# Altium footprint library EdgePlating.PcbLib: 4 footprints
Each footprint in its own frame and in the unit in brackets; x right, y up, seen from the top. Pads: shape width x height; smd on the part's side, far side on the other; paste and mask are expansions set on the pad; w line width, h text height; cw(c..) or ccw(c..) is an arc to the next point about the centre after c.
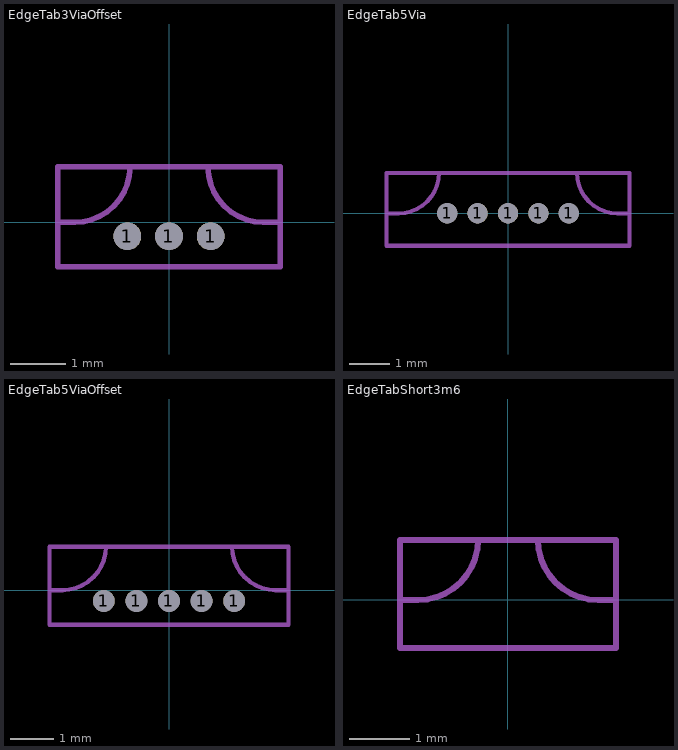
[diagram p0: the footprints below, top view; thin cyan lines are the x and y axes]

## EdgeTab3ViaOffset [mm] "TabLength = 4 mm"
pads (3):
  round 0.5 hole 0.5 unplated paste-2539.97 mask+0: 1(-0.75,-0.25) 1(0,-0.25) 1(0.75,-0.25)
Top Solder:
  region: -2,1 2,1 2,-0.8 -2,-0.8
Bottom Solder:
  region: -2,1 2,1 2,-0.8 -2,-0.8
Board:
  lines w0.1: -2,0 -1.7,0 ccw(c-1.7,1) -0.7,1 0.7,1 ccw(c1.7,1) 1.7,0 2,0
Multi-Layer:
  pour cut-out: -2,1 2,1 2,-0.8 -2,-0.8
EdgePlatingTabs:
  lines w0.1: -2,-0.8 2,-0.8 2,1 -2,1 -2,-0.8

## EdgeTab5Via [mm] "TabLength = 6 mm"
pads (5):
  round 0.5 hole 0.5 unplated paste-2539.97 mask+0: 1(-1.5,0) 1(-0.75,0) 1(0,0) 1(0.75,0) 1(1.5,0)
Top Solder:
  region: -3,1 3,1 3,-0.8 -3,-0.8
Bottom Solder:
  region: -3,1 3,1 3,-0.8 -3,-0.8
Board:
  lines w0.1: -3,0 -2.7,0 ccw(c-2.7,1) -1.7,1 1.7,1 ccw(c2.7,1) 2.7,0 3,0
Multi-Layer:
  pour cut-out: -3,-0.8 -3,1 3,1 3,-0.8
EdgePlatingTabs:
  lines w0.1: -3,-0.8 3,-0.8 3,1 -3,1 -3,-0.8

## EdgeTab5ViaOffset [mm] "TabLength = 5.5 mm"
pads (5):
  round 0.5 hole 0.5 unplated paste-2539.97 mask+0: 1(-1.5,-0.25) 1(-0.75,-0.25) 1(0,-0.25) 1(0.75,-0.25) 1(1.5,-0.25)
Top Solder:
  region: -2.75,1 2.75,1 2.75,-0.8 -2.75,-0.8
Bottom Solder:
  region: -2.75,1 2.75,1 2.75,-0.8 -2.75,-0.8
Board:
  lines w0.1: -2.75,0 -2.45,0 ccw(c-2.45,1) -1.45,1 1.45,1 ccw(c2.45,1) 2.45,0 2.75,0
Multi-Layer:
  pour cut-out: -2.75,1 2.75,1 2.75,-0.8 -2.75,-0.8
EdgePlatingTabs:
  lines w0.1: -2.75,-0.8 2.75,-0.8 2.75,1 -2.75,1 -2.75,-0.8

## EdgeTabShort3m6 [mm] "TabLength = 3.6 mm"
Top Solder:
  region: -1.8,1 1.8,1 1.8,-0.8 -1.8,-0.8
Bottom Solder:
  region: -1.8,1 1.8,1 1.8,-0.8 -1.8,-0.8
Board:
  lines w0.1: -1.8,0 -1.5,0 ccw(c-1.5,1) -0.5,1 0.5,1 ccw(c1.5,1) 1.5,0 1.8,0
Multi-Layer:
  pour cut-out: -1.8,1 1.8,1 1.8,-0.8 -1.8,-0.8
EdgePlatingTabs:
  lines w0.1: -1.8,-0.8 1.8,-0.8 1.8,1 -1.8,1 -1.8,-0.8